# Altium schematic symbol library LibreriaO2.SchLib: 27 symbols
Pins are listed as number, name and electrical type; pins without a type are passive.

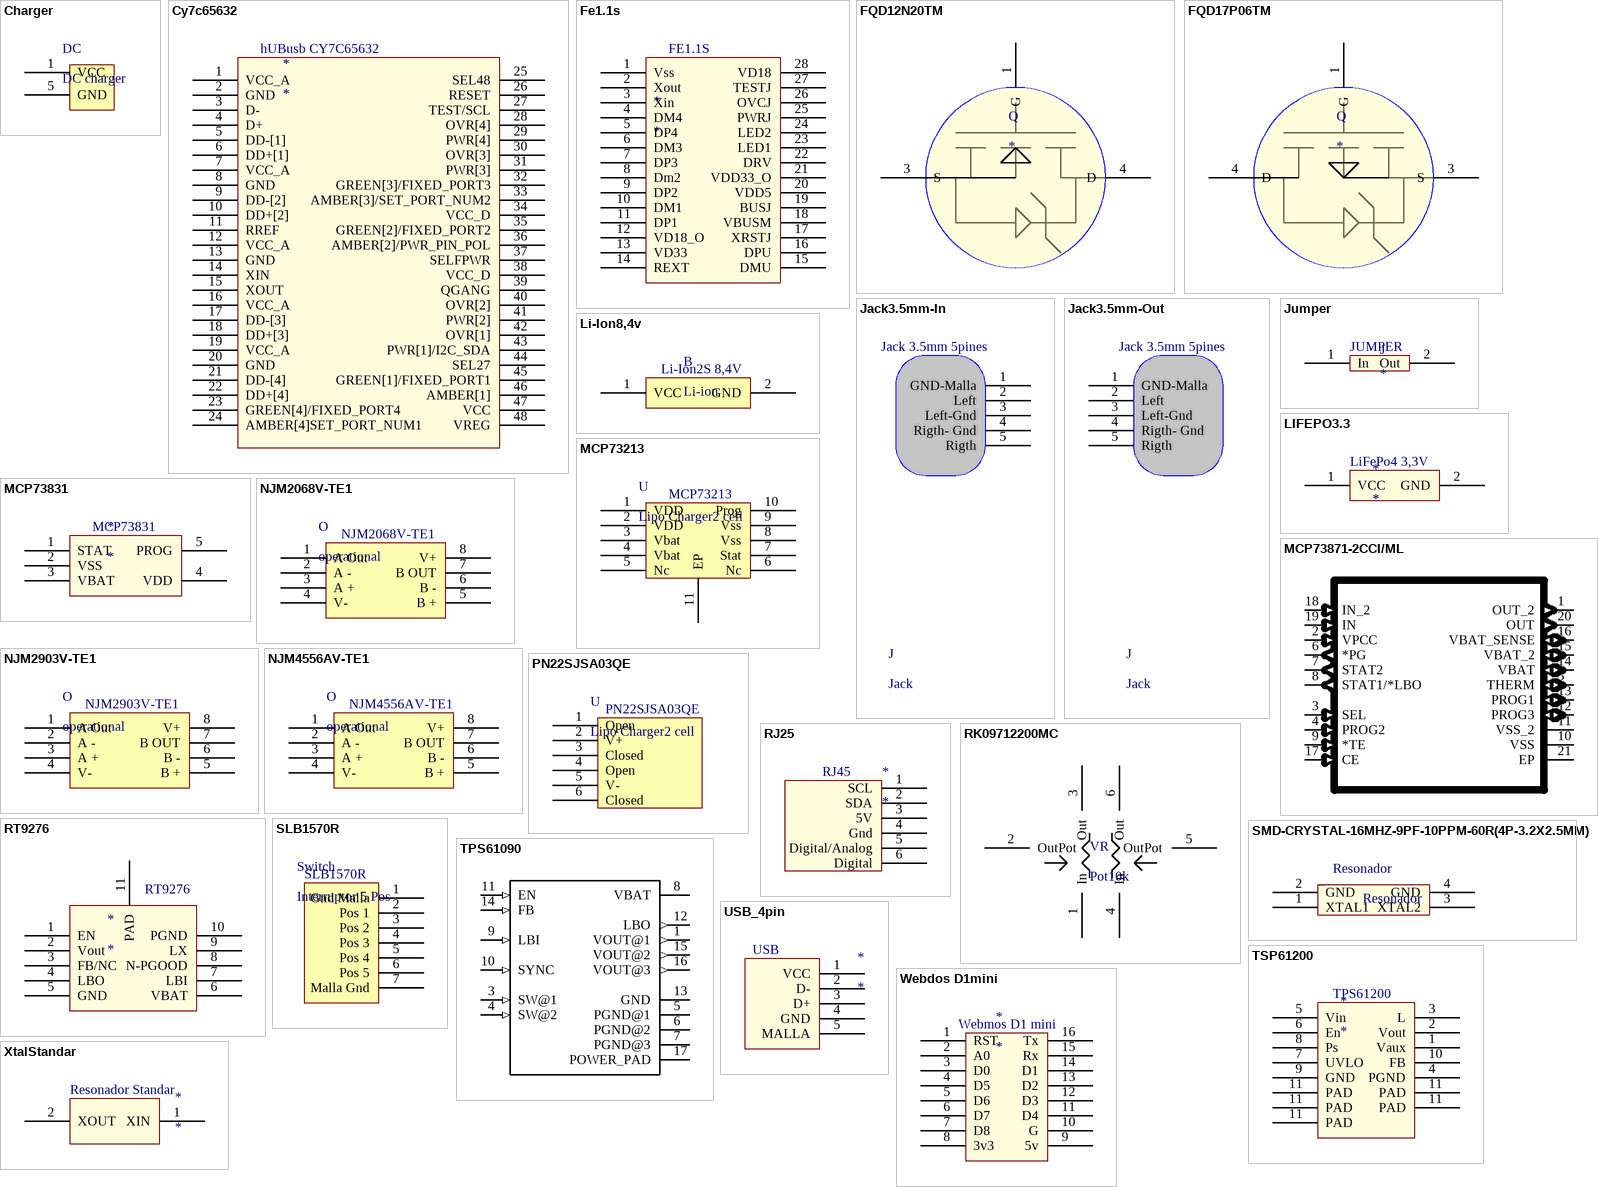
[diagram p0: symbols Charger to XtalStandar]

## Charger
designator DC, comment DC charger
pins: 1 VCC, 5 GND

## Cy7c65632
designator *
pins: 1 VCC_A, 2 GND, 3 D-, 4 D+, 5 DD-[1], 6 DD+[1], 7 VCC_A, 8 GND, 9 DD-[2], 10 DD+[2], 11 RREF, 12 VCC_A, 13 GND, 14 XIN, 15 XOUT, 16 VCC_A, 17 DD-[3], 18 DD+[3], 19 VCC_A, 20 GND, 21 DD-[4], 22 DD+[4], 23 GREEN[4]/FIXED_PORT4, 24 AMBER[4]SET_PORT_NUM1, 25 SEL48, 26 RESET, 27 TEST/SCL, 28 OVR[4], 29 PWR[4], 30 OVR[3], 31 PWR[3], 32 GREEN[3]/FIXED_PORT3, 33 AMBER[3]/SET_PORT_NUM2, 34 VCC_D, 35 GREEN[2]/FIXED_PORT2, 36 AMBER[2]/PWR_PIN_POL, 37 SELFPWR, 38 VCC_D, 39 QGANG, 40 OVR[2], 41 PWR[2], 42 OVR[1], 43 PWR[1]/I2C_SDA, 44 SEL27, 45 GREEN[1]/FIXED_PORT1, 46 AMBER[1], 47 VCC, 48 VREG
text: hUBusb CY7C65632

## Fe1.1s
designator *
pins: 1 Vss, 2 Xout, 3 Xin, 4 DM4, 5 DP4, 6 DM3, 7 DP3, 8 Dm2, 9 DP2, 10 DM1, 11 DP1, 12 VD18_O, 13 VD33, 14 REXT, 15 DMU, 16 DPU, 17 XRSTJ, 18 VBUSM, 19 BUSJ, 20 VDD5, 21 VDD33_O, 22 DRV, 23 LED1, 24 LED2, 25 PWRJ, 26 OVCJ, 27 TESTJ, 28 VD18
text: FE1.1S

## FQD12N20TM
designator Q
pins: 1 G, 3 S, 4 D

## FQD17P06TM
designator Q
pins: 1 G, 3 S, 4 D

## Jack3.5mm-In
designator J, comment Jack
pins: 1 GND-Malla, 2 Left, 3 Left-Gnd, 4 Rigth- Gnd, 5 Rigth
text: Jack 3.5mm 5pines

## Jack3.5mm-Out
designator J, comment Jack
pins: 1 GND-Malla, 2 Left, 3 Left-Gnd, 4 Rigth- Gnd, 5 Rigth
text: Jack 3.5mm 5pines

## Jumper
designator J
pins: 1 In, 2 Out
text: JUMPER

## Li-Ion8,4v
designator B, comment Li-ion
pins: 1 VCC, 2 GND
text: Li-Ion2S 8,4V

## LIFEPO3.3
designator *
pins: 1 VCC, 2 GND
text: LiFePo4 3,3V

## MCP73213
designator U, comment Lipo Charger2 cell
pins: 1 VDD, 2 VDD, 3 Vbat, 4 Vbat, 5 Nc, 6 Nc, 7 Stat, 8 Vss, 9 Vss, 10 Prog, 11 EP

## MCP73831
designator *
pins: 1 STAT, 2 VSS, 3 VBAT, 4 VDD, 5 PROG

## MCP73871-2CCI/ML
designator U?  (value not drawn)
Fully Integrated Single Cell Lithium Ion/Lithium Polymer Charge Management Contr; MF: Microchip; Price: 1.67 USD; Availability: Good; MP: MCP73871-2CCI/ML; Package: QFN-20 Microchip; Value: *
footprint QFN50P400X400X100-21N
pins: 1 OUT_2 (out), 2 VPCC (in), 3 SEL (in), 4 PROG2 (in), 5 THERM (io), 6 *PG (out), 7 STAT2 (out), 8 STAT1/*LBO (out), 9 *TE (in), 10 VSS (power), 11 VSS_2 (power), 12 PROG3 (io), 13 PROG1 (io), 14 VBAT (io), 15 VBAT_2 (io), 16 VBAT_SENSE (io), 17 CE (in), 18 IN_2 (in), 19 IN (in), 20 OUT (out), 21 EP

## NJM2068V-TE1
designator O, comment operational
pins: 1 A Out, 2 A -, 3 A +, 4 V-, 5 B +, 6 B -, 7 B OUT, 8 V+

## NJM2903V-TE1
designator O, comment operational
pins: 1 A Out, 2 A -, 3 A +, 4 V-, 5 B +, 6 B -, 7 B OUT, 8 V+

## NJM4556AV-TE1
designator O, comment operational
pins: 1 A Out, 2 A -, 3 A +, 4 V-, 5 B +, 6 B -, 7 B OUT, 8 V+

## PN22SJSA03QE
designator U, comment Lipo Charger2 cell
pins: 1 Open, 2 V+, 3 Closed, 4 Open, 5 V-, 6 Closed

## RJ25
designator *
pins: 1 SCL, 2 SDA, 3 5V, 4 Gnd, 5 Digital/Analog, 6 Digital
text: RJ45

## RK09712200MC
designator VR, comment Pot10k
pins: 1 In, 2 OutPot, 3 Out, 4 In, 5 OutPot, 6 Out

## RT9276
designator *
pins: 1 EN, 2 Vout, 3 FB/NC, 4 LBO, 5 GND, 6 VBAT, 7 LBI, 8 N-PGOOD, 9 LX, 10 PGND, 11 PAD

## SLB1570R
designator Switch, comment Interruptor 5 Pos
pins: 1 Gnd Malla, 2 Pos 1, 3 Pos 2, 4 Pos 3, 5 Pos 4, 6 Pos 5, 7 Malla Gnd

## SMD-CRYSTAL-16MHZ-9PF-10PPM-60R(4P-3.2X2.5MM)
designator X?, comment SMD-CRYSTAL-16MHZ-9PF-Resonador  (value not drawn)
SMD Crystal 16MHz-9pF-10ppm-60R;; MF: Epson; MP: TSX-3225 16.0000MF18X-AC3; Package: 1210 Epson; Price: 0.38 USD; Availability: Bad; Value: *
footprint X4-SMD-3.2X2.5X0.7MM
pins: 1 XTAL1, 2 GND, 3 XTAL2, 4 GND
text: Resonador

## TPS61090
designator U?  (value not drawn)
the tps6109x devices provide a power supply solution for products powered by either a one-cell li-ion or li-polymer o...; MF: Texas Instruments; Price: None; Availability: Unavailable; MP: TPS61090; Package: QFN-16 Texas Instruments; Value: *
footprint QFN65P400X400X100-17N
pins: 1 VOUT@1 (out), 3 SW@1 (in), 4 SW@2 (in), 5 PGND@1 (power), 6 PGND@2 (power), 7 PGND@3 (power), 8 VBAT (power), 9 LBI (in), 10 SYNC (in), 11 EN (in), 12 LBO (out), 13 GND (power), 14 FB (in), 15 VOUT@2 (out), 16 VOUT@3 (out), 17 POWER_PAD (power)

## TSP61200
designator *
pins: 1 Vaux, 2 Vout, 3 L, 4 PGND, 5 Vin, 6 En, 7 UVLO, 8 Ps, 9 GND, 10 FB, 11 PAD, 11 PAD, 11 PAD, 11 PAD, 11 PAD
text: TPS61200

## USB_4pin
designator *
pins: 1 VCC, 2 D-, 3 D+, 4 GND, 5 MALLA
text: USB

## Webdos D1mini
designator *
pins: 1 RST, 2 A0, 3 D0, 4 D5, 5 D6, 6 D7, 7 D8, 8 3v3, 9 5v, 10 G, 11 D4, 12 D3, 13 D2, 14 D1, 15 Rx, 16 Tx
text: Webmos D1 mini

## XtalStandar
designator *
pins: 1 XIN, 2 XOUT
text: Resonador Standar